# Altium schematic symbol library SCH - DIODES - ZENER_generic.SchLib: 4 symbols
Pins are listed as number, name and electrical type; pins without a type are passive.

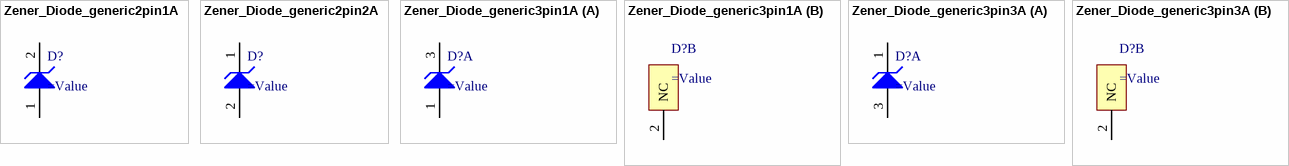
[diagram p0: symbols Zener_Diode_generic2pin1A to Zener_Diode_generic3pin3A]

## Zener_Diode_generic2pin1A
designator D?
pins: 1 A, 2 K

## Zener_Diode_generic2pin2A
designator D?
pins: 1 K, 2 A

## Zener_Diode_generic3pin1A
designator D?
part A pins: 1 A, 3 K
part B pins: 2 NC

## Zener_Diode_generic3pin3A
designator D?
part A pins: 1 K, 3 A
part B pins: 2 NC